# Altium schematic symbol library 原理图库.SchLib: 64 symbols
Pins are listed as number, name and electrical type; pins without a type are passive.

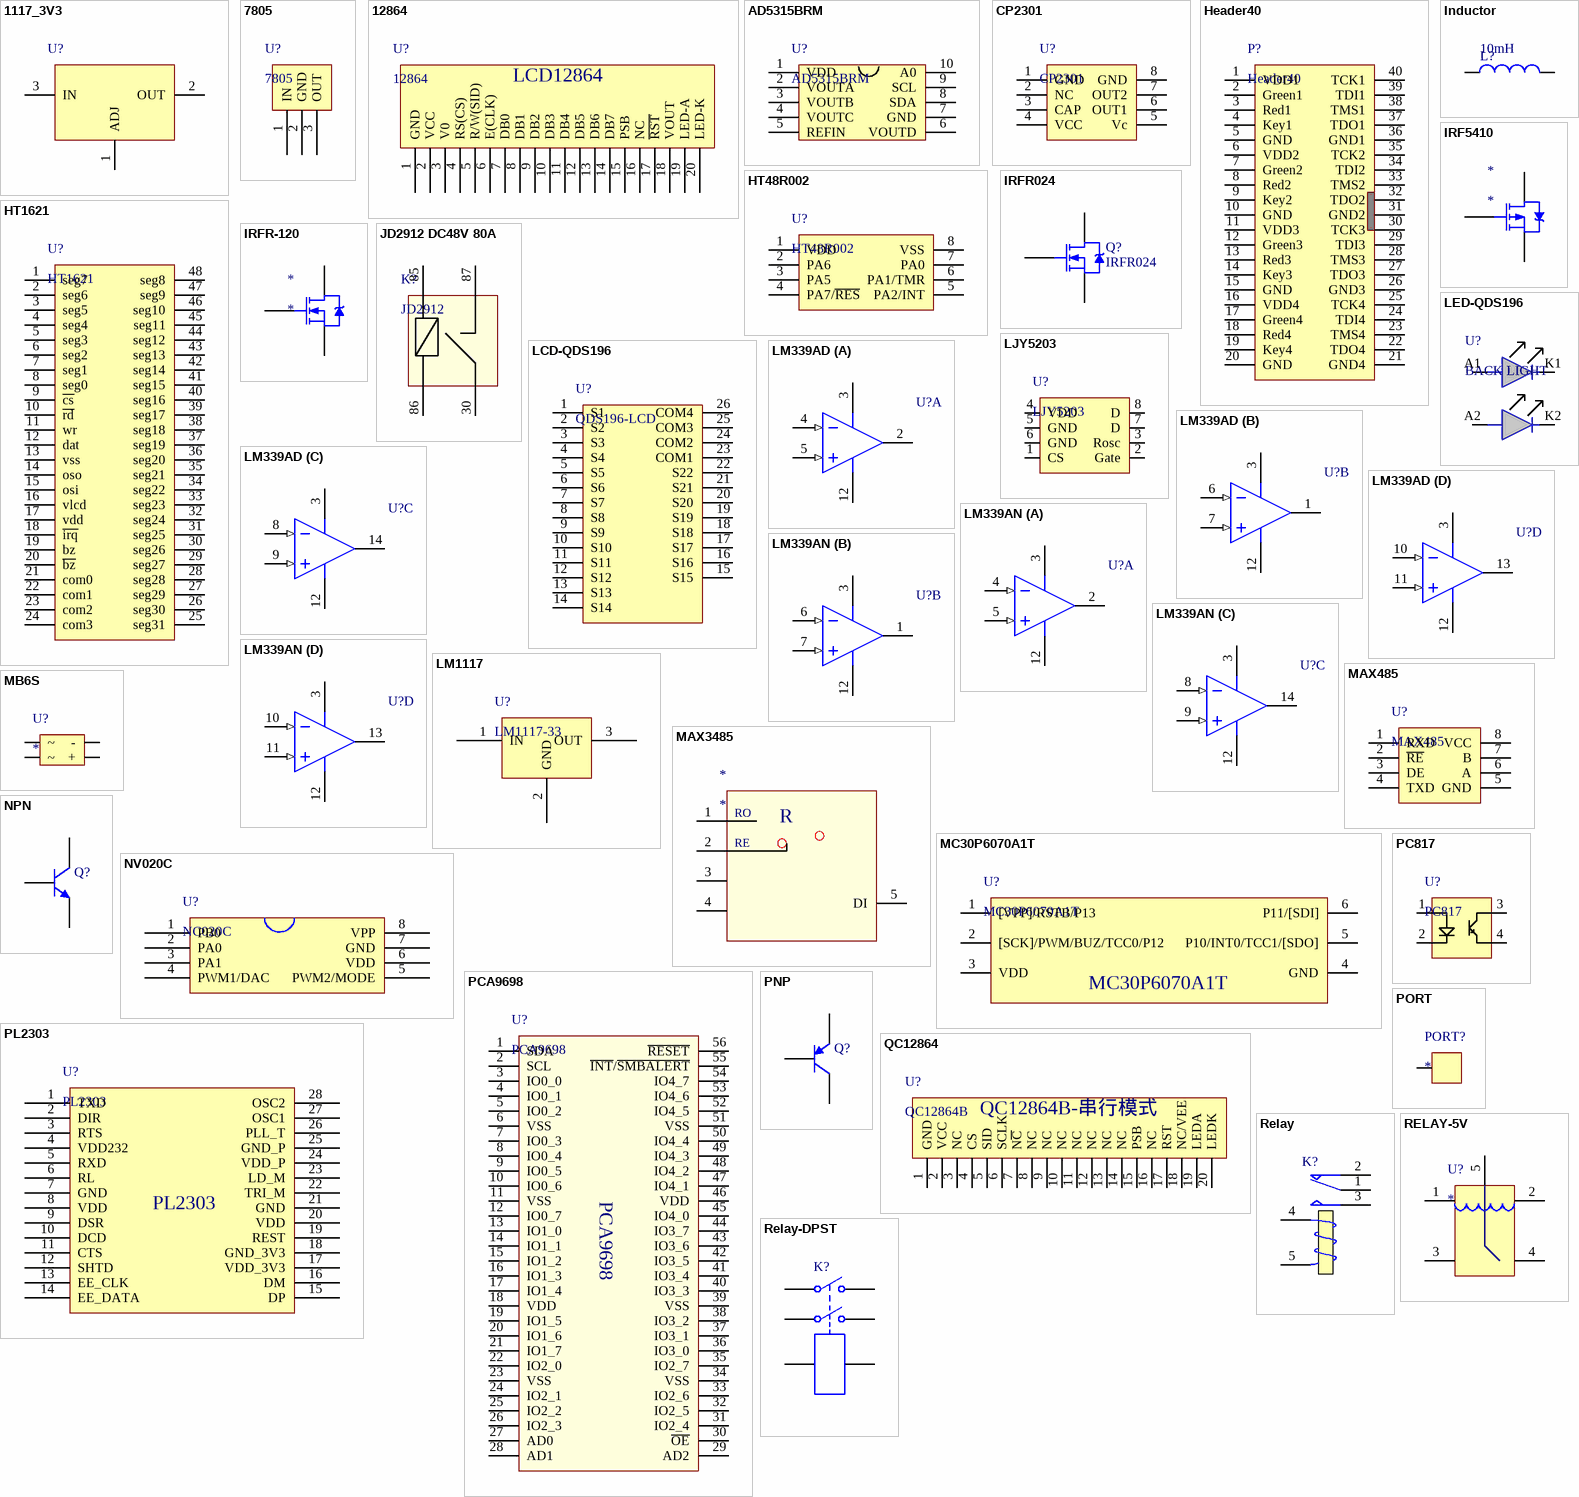
[diagram p0: symbols 1117_3V3 to Relay-DPST]

## 1117_3V3
designator U?  (value not drawn)
3.3V   LDO芯片
footprint SOT-223-jt (1117-3V3芯片的封装)
pins: 1 ADJ, 2 OUT, 3 IN

## 7805
designator U?
5V稳压LDO
pins: 1 IN, 2 GND, 3 OUT

## 12864
designator U?
12864   点阵显示屏
pins: 1 GND, 2 VCC, 3 V0, 4 RS(CS), 5 R/W(SID), 6 E(CLK), 7 DB0, 8 DB1, 9 DB2, 10 DB3, 11 DB4, 12 DB5, 13 DB6, 14 DB7, 15 PSB, 16 NC, 17 ~{RST}, 18 VOUT, 19 LED-A, 20 LED-K
text: LCD12864

## AD5315BRM
designator U?
footprint MSOP10
pins: 1 VDD, 2 VOUTA, 3 VOUTB, 4 VOUTC, 5 REFIN, 6 VOUTD, 7 GND, 8 SDA, 9 SCL, 10 A0

## CP2301
designator U?
pins: 1 GND, 2 NC, 3 CAP, 4 VCC, 5 Vc, 6 OUT1, 7 OUT2, 8 GND

## Header40
designator P?
pins: 1 VDD1, 2 Green1, 3 Red1, 4 Key1, 5 GND, 6 VDD2, 7 Green2, 8 Red2, 9 Key2, 10 GND, 11 VDD3, 12 Green3, 13 Red3, 14 Key3, 15 GND, 16 VDD4, 17 Green4, 18 Red4, 19 Key4, 20 GND, 21 GND4, 22 TDO4, 23 TMS4, 24 TDI4, 25 TCK4, 26 GND3, 27 TDO3, 28 TMS3, 29 TDI3, 30 TCK3, 31 GND2, 32 TDO2, 33 TMS2, 34 TDI2, 35 TCK2, 36 GND1, 37 TDO1, 38 TMS1, 39 TDI1, 40 TCK1

## HT48R002
designator U?
pins: 1 VDD, 2 PA6, 3 PA5, 4 PA7/~{RES}, 5 PA2/INT, 6 PA1/TMR, 7 PA0, 8 VSS

## HT1621
designator U?
pins: 1 seg7, 2 seg6, 3 seg5, 4 seg4, 5 seg3, 6 seg2, 7 seg1, 8 seg0, 9 ~{cs}, 10 ~{rd}, 11 wr, 12 dat, 13 vss, 14 oso, 15 osi, 16 vlcd, 17 vdd, 18 ~{irq}, 19 bz, 20 ~{bz}, 21 com0, 22 com1, 23 com2, 24 com3, 25 seg31, 26 seg30, 27 seg29, 28 seg28, 29 seg27, 30 seg26, 31 seg25, 32 seg24, 33 seg23, 34 seg22, 35 seg21, 36 seg20, 37 seg19, 38 seg18, 39 seg17, 40 seg16, 41 seg15, 42 seg14, 43 seg13, 44 seg12, 45 seg11, 46 seg10, 47 seg9, 48 seg8

## Inductor
designator L?  value 10mH
Inductor; Code_IEC: 1005; Published: 8-Jun-2000; LatestRevisionDate: 29-May-2009; LatestRevisionNote: IPC-7351 Footprint Added.; PackageReference: 0402-A; Publisher: Altium Limited; PackageDescription: Chip Inductor; Code_JEITA: 0402
footprint 0402-A (Chip Inductor, Body 1.0x0.5mm, IPC High Density)
footprint INDC1608L (Chip Inductor, Body 1.6x0.8mm, IPC High Density)
footprint 2029 (Chip Inductor, Body 2.0x1.2mm, IPC High Density)
footprint 0603 (Chip Inductor, Body 0.6x0.3mm, IPC High Density)
footprint INDC3216 (Chip Inductor, Body 3.2x1.6mm, IPC High Density)
footprint INDC4532 (Chip Inductor, Body 4.5x3.2mm, IPC High Density)
simulation model INDUCTOR (Inductor)
signal-integrity model Inductor
pins: 1, 2

## IRF5410
designator *
footprint TO252-AA (IRF5410功率MOS管贴片封装-官方)
pins: 1 G, 3 S, 4 D

## IRFR024
designator Q?
HEXFET N-Channel Power MOSFET; Note: Pin 2 is trimmed and is electrically connected to Drain.; Published: 8-Jun-2000; LatestRevisionDate: 17-Jul-2002; LatestRevisionNote: Re-released for DXP Platform.; DatasheetVersion: PD-9.702A; PackageVersion: Feb-2003; PackageReference: TO-252AA; Publisher: Altium Limited; PackageDescription: D-PAK/TO-252-AA; 3 Leads (1 Cropped); Body 10.4 (inc. leads) x 6.7 mm (LxW max); Code_JEDEC: TO-252-AA; ComponentLink1Description: Manufacturer Link; ComponentLink1URL: http://www.irf.com/; ComponentLink2Description: Datasheet; ComponentLink2URL: http://www.irf.com/product-info/datasheets/data/irfr024.pdf
footprint TO252-AA (IRF5410功率MOS管贴片封装-官方)
simulation model IRFR024 (SUBCKT)
pins: 1 G, 3 S, 4 D

## IRFR-120
designator *
footprint TO252-AA (IRF5410功率MOS管贴片封装-官方)
pins: 1 G, 3 S, 4 D

## JD2912 DC48V 80A
designator K?, comment JD2912
pins: 30 GND, 85 GND, 86 GND, 87 GND

## LCD-QDS196
designator U?, comment QDS196-LCD
pins: 1 S1, 2 S2, 3 S3, 4 S4, 5 S5, 6 S6, 7 S7, 8 S8, 9 S9, 10 S10, 11 S11, 12 S12, 13 S13, 14 S14, 15 S15, 16 S16, 17 S17, 18 S18, 19 S19, 20 S20, 21 S21, 22 S22, 23 COM1, 24 COM2, 25 COM3, 26 COM4

## LED-QDS196
designator U?, comment BACK LIGHT
footprint QDS196-LED
pins: A1 CAP, A2 CAP, K1 CAP, K2 CAP

## LJY5203
designator U?
DC-DC   LED恒流驱动芯片
pins: 1 CS, 2 Gate, 3 Rosc, 4 VDD, 5 GND, 6 GND, 7 D, 8 D

## LM339AD
designator U?
Low-Power Quad Voltage Comparator; Published: 24-Aug-2001; LatestRevisionDate: 13-Apr-2006; LatestRevisionNote: IPC-7351 Footprint Added.; DatasheetVersion: Jun-1998; PackageVersion: Sep-1998; PackageReference: SO14; Publisher: Altium Limited; PackageDescription: 14-Pin Small Outline Integrated Circuit 1.27 mm Pitch; Code_IPC: SOIC127P600-14; ComponentLink1Description: Manufacturer Link; ComponentLink1URL: http://www.st.com/; ComponentLink2Description: Datasheet; ComponentLink2URL: http://www.st.com/stonline/products/literature/ds/2159/lm239.pdf
footprint SO14_N (SOIC, 14-Leads, Body 8.7x3.9mm, Pitch 1.27mm, IPC Medium Density)
footprint SO14_L (SOIC, 14-Leads, Body 8.7x3.9mm, Pitch 1.27mm, IPC High Density)
footprint SO14_M (SOIC, 14-Leads, Body 8.7x3.9mm, Pitch 1.27mm, IPC Low Density)
3D model SO14 (14-Pin Small Outline Integrated Circuit 1.27 mm Pitch)
pins on every part: 3 V+ (power), 12 V- (power)
part A pins: 2 OUT (oc), 4 IN- (in), 5 IN+ (in)
part B pins: 1 OUT (oc), 6 IN- (in), 7 IN+ (in)
part C pins: 8 IN- (in), 9 IN+ (in), 14 OUT (oc)
part D pins: 10 IN- (in), 11 IN+ (in), 13 OUT (oc)

## LM339AN
designator U?
Low-Power Quad Voltage Comparator; Published: 24-Aug-2001; LatestRevisionDate: 06-Jun-2005; LatestRevisionNote: Stylized 3D Model Added.; DatasheetVersion: Jun-1998; PackageVersion: Jan-1997; PackageReference: DIP14; Publisher: Altium Limited; PackageDescription: DIP; 14 Leads; Row Spacing 7.62 mm; Pitch 2.54 mm; ComponentLink1Description: Manufacturer Link; ComponentLink1URL: http://www.st.com/; ComponentLink2Description: Datasheet; ComponentLink2URL: http://www.st.com/stonline/products/literature/ds/2159/lm239.pdf
footprint DIP14 (DIP; 14 Leads; Row Spacing 7.62 mm; Pitch 2.54 mm)
3D model DIP14 (DIP; 14 Leads; Row Spacing 7.62 mm; Pitch 2.54 mm)
pins on every part: 3 V+ (power), 12 V- (power)
part A pins: 2 OUT (oc), 4 IN- (in), 5 IN+ (in)
part B pins: 1 OUT (oc), 6 IN- (in), 7 IN+ (in)
part C pins: 8 IN- (in), 9 IN+ (in), 14 OUT (oc)
part D pins: 10 IN- (in), 11 IN+ (in), 13 OUT (oc)

## LM1117
designator U?, comment LM1117-33
3.3V稳压LDO
pins: 1 IN, 2 GND, 3 OUT

## MAX485
designator U?
MAX485芯片
pins: 1 RXD, 2 ~{RE}, 3 DE, 4 TXD, 5 GND, 6 A, 7 B, 8 VCC

## MAX3485
designator *
pins: 1 RO, 2 RE, 3 DE, 4 DI, 5 DI
text: R

## MB6S
designator U?
pins: 1 ~, 2 ~, 3 +, 4 -

## MC30P6070A1T
designator U?
pins: 1 [VPP]/RSTB/P13, 2 [SCK]/PWM/BUZ/TCC0/P12, 3 VDD, 4 GND, 5 P10/INT0/TCC1/[SDO], 6 P11/[SDI]

## NPN
designator Q?
NPN Bipolar Transistor; Published: 8-Jun-2000; LatestRevisionDate: 17-Jul-2002; LatestRevisionNote: Re-released for DXP Platform.; PackageReference: TO-226-AA; Publisher: Altium Limited; PackageDescription: TO, Flat Index; 3 In-Line, Axial Leads; Body Dia. 4.8mm; Leads 0.55 x 0.51 mm (max); Code_JEDEC: TO-226-AA
footprint SOT23-JT; pin to pad 1>C 2>B 3>E
pins: 1 C, 2 B, 3 E

## NV020C
designator U?, comment NC020C
pins: 1 PB0, 2 PA0, 3 PA1, 4 PWM1/DAC, 5 PWM2/MODE, 6 VDD, 7 GND, 8 VPP

## PC817
designator U?
常用光耦元件
pins: 1, 2, 3, 4

## PCA9698
designator U?
pins: 1 SDA, 2 SCL, 3 IO0_0, 4 IO0_1, 5 IO0_2, 6 VSS, 7 IO0_3, 8 IO0_4, 9 IO0_5, 10 IO0_6, 11 VSS, 12 IO0_7, 13 IO1_0, 14 IO1_1, 15 IO1_2, 16 IO1_3, 17 IO1_4, 18 VDD, 19 IO1_5, 20 IO1_6, 21 IO1_7, 22 IO2_0, 23 VSS, 24 IO2_1, 25 IO2_2, 26 IO2_3, 27 AD0, 28 AD1, 29 AD2, 30 ~{OE}, 31 IO2_4, 32 IO2_5, 33 IO2_6, 34 VSS, 35 IO2_7, 36 IO3_0, 37 IO3_1, 38 IO3_2, 39 VSS, 40 IO3_3, 41 IO3_4, 42 IO3_5, 43 IO3_6, 44 IO3_7, 45 IO4_0, 46 VDD, 47 IO4_1, 48 IO4_2, 49 IO4_3, 50 IO4_4, 51 VSS, 52 IO4_5, 53 IO4_6, 54 IO4_7, 55 ~{INT}/~{SMBALERT}, 56 ~{RESET}

## PL2303
designator U?
pins: 1 TXD, 2 DIR, 3 RTS, 4 VDD232, 5 RXD, 6 RL, 7 GND, 8 VDD, 9 DSR, 10 DCD, 11 CTS, 12 SHTD, 13 EE_CLK, 14 EE_DATA, 15 DP, 16 DM, 17 VDD_3V3, 18 GND_3V3, 19 REST, 20 VDD, 21 GND, 22 TRI_M, 23 LD_M, 24 VDD_P, 25 GND_P, 26 PLL_T, 27 OSC1, 28 OSC2

## PNP
designator Q?
PNP Bipolar Transistor; Published: 8-Jun-2000; LatestRevisionDate: 29-May-2009; LatestRevisionNote: IPC-7351 Footprint Added.; PackageVersion: Aug-1999; PackageReference: SOT-23B; Publisher: Altium Limited; PackageDescription: 3-Pin SOT-23 Package 0.95 mm Pitch, 2.4 mm Lead Span
footprint SOT23-JT; pin to pad 1>E 2>B 3>C
pins: 1 E, 2 B, 3 C

## PORT
designator PORT?
pins: 1

## QC12864
designator U?, comment QC12864B
育松电子QC12864B
pins: 1 GND, 2 VCC, 3 NC, 4 CS, 5 SID, 6 SCLK, 7 N~{C}, 8 NC, 9 NC, 10 NC, 11 NC, 12 NC, 13 NC, 14 NC, 15 PSB, 16 NC, 17 RST, 18 NC/VEE, 19 LEDA, 20 LEDK
text: QC12864B-串行模式

## Relay
designator K?
SPDT Relay; Published: 8-Jun-2000; LatestRevisionDate: 17-Jul-2002; LatestRevisionNote: Re-released for DXP Platform.; PackageReference: MODULE5B; Publisher: Altium Limited
footprint MODULE5B (DIP; 5 Round Pins; Row Space 15.24 mm; Pitch 2.54 mm)
simulation model SPDTRELAY (Spice Subcircuit)
pins: 1 COM, 2 NC, 3 NO, 4 T1, 5 T2

## RELAY-5V
designator U?
松乐5V 继电器SRD-05VDC-SL-C
pins: 1 D8, 2 D9, 3 D8, 4 D8, 5 D8

## Relay-DPST
designator K?
Dual-Pole Single-Throw Relay; Published: 24-Mar-1999; LatestRevisionDate: 17-Jul-2002; LatestRevisionNote: Re-released for DXP Platform.; PackageReference: MODULE6; Publisher: Altium Limited
footprint MODULE6 (DIP; 6 Round Pins; Row Space 20.32 mm; Pitch 2.54 mm)
simulation model DPSTRELAY (Spice Subcircuit)
pins: 1, 2, 3, 4, 5, 6

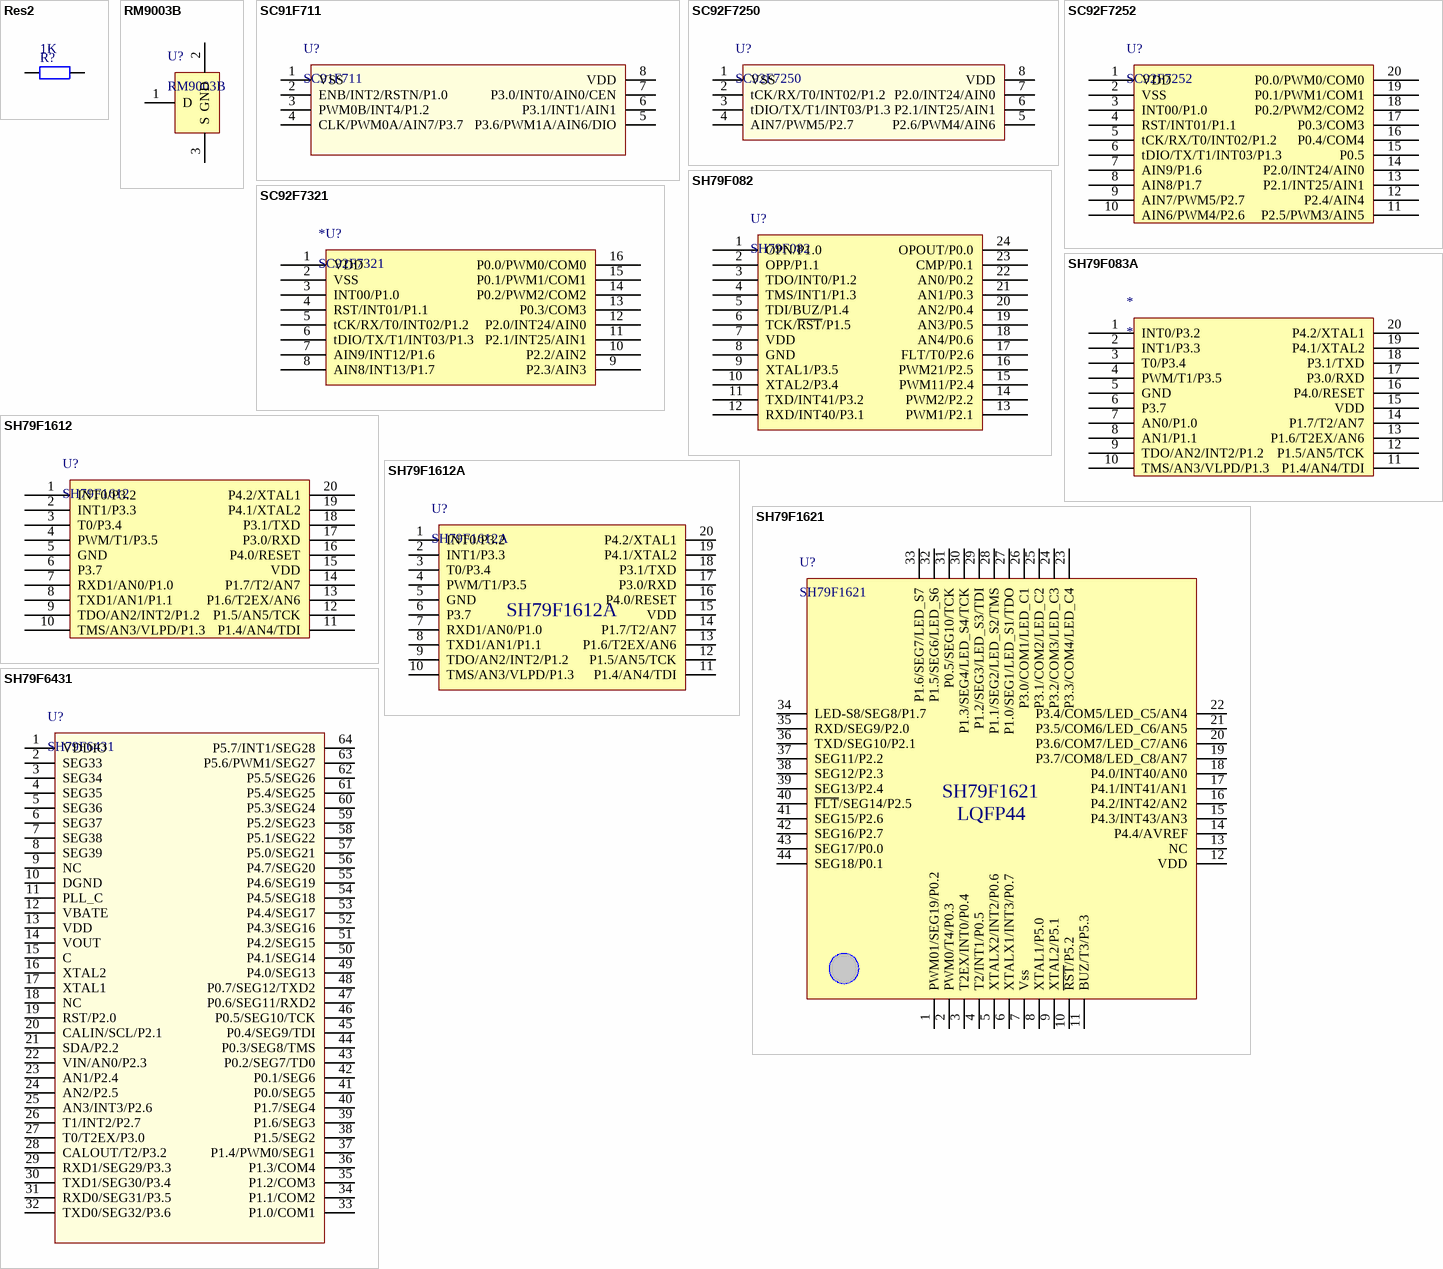
[diagram p1: symbols Res2 to SH79F6431]

## Res2
designator R?  value 1K
Resistor; Published: 8-Jun-2000; LatestRevisionDate: 17-Jul-2002; LatestRevisionNote: Re-released for DXP Platform.; PackageReference: AXIAL-0.4; Publisher: Altium Limited; PackageDescription: Axial Device, Thru-Hole; 2 Leads; 0.4 in Pin Spacing
footprint AXIAL-0.4 (Axial Device, Thru-Hole; 2 Leads; 0.4 in Pin Spacing)
simulation model RESISTOR (Resistor)
signal-integrity model Res
pins: 1, 2

## RM9003B
designator U?
pins: 1 D, 2 GND, 3 S

## SC91F711
designator U?
pins: 1 VSS, 2 ENB/INT2/RSTN/P1.0, 3 PWM0B/INT4/P1.2, 4 CLK/PWM0A/AIN7/P3.7, 5 P3.6/PWM1A/AIN6/DIO, 6 P3.1/INT1/AIN1, 7 P3.0/INT0/AIN0/CEN, 8 VDD

## SC92F7250
designator U?
footprint SOP8 (SOIC, 8-Leads, Body 4.9x3.9mm, Pitch 1.27mm, IPC High Density)
pins: 1 VSS, 2 tCK/RX/T0/INT02/P1.2, 3 tDIO/TX/T1/INT03/P1.3, 4 AIN7/PWM5/P2.7, 5 P2.6/PWM4/AIN6, 6 P2.1/INT25/AIN1, 7 P2.0/INT24/AIN0, 8 VDD

## SC92F7252
designator U?
pins: 1 VDD, 2 VSS, 3 INT00/P1.0, 4 RST/INT01/P1.1, 5 tCK/RX/T0/INT02/P1.2, 6 tDIO/TX/T1/INT03/P1.3, 7 AIN9/P1.6, 8 AIN8/P1.7, 9 AIN7/PWM5/P2.7, 10 AIN6/PWM4/P2.6, 11 P2.5/PWM3/AIN5, 12 P2.4/AIN4, 13 P2.1/INT25/AIN1, 14 P2.0/INT24/AIN0, 15 P0.5, 16 P0.4/COM4, 17 P0.3/COM3, 18 P0.2/PWM2/COM2, 19 P0.1/PWM1/COM1, 20 P0.0/PWM0/COM0

## SC92F7321
designator *U?
赛元微单片机芯片SC92F7321
pins: 1 VDD, 2 VSS, 3 INT00/P1.0, 4 RST/INT01/P1.1, 5 tCK/RX/T0/INT02/P1.2, 6 tDIO/TX/T1/INT03/P1.3, 7 AIN9/INT12/P1.6, 8 AIN8/INT13/P1.7, 9 P2.3/AIN3, 10 P2.2/AIN2, 11 P2.1/INT25/AIN1, 12 P2.0/INT24/AIN0, 13 P0.3/COM3, 14 P0.2/PWM2/COM2, 15 P0.1/PWM1/COM1, 16 P0.0/PWM0/COM0

## SH79F082
designator U?
中颖082芯片
pins: 1 OPN/P1.0, 2 OPP/P1.1, 3 TDO/INT0/P1.2, 4 TMS/INT1/P1.3, 5 TDI/BUZ/P1.4, 6 TCK/~{RST}/P1.5, 7 VDD, 8 GND, 9 XTAL1/P3.5, 10 XTAL2/P3.4, 11 TXD/INT41/P3.2, 12 RXD/INT40/P3.1, 13 PWM1/P2.1, 14 PWM2/P2.2, 15 PWM11/P2.4, 16 PWM21/P2.5, 17 FLT/T0/P2.6, 18 AN4/P0.6, 19 AN3/P0.5, 20 AN2/P0.4, 21 AN1/P0.3, 22 AN0/P0.2, 23 CMP/P0.1, 24 OPOUT/P0.0

## SH79F083A
designator *
pins: 1 INT0/P3.2, 2 INT1/P3.3, 3 T0/P3.4, 4 PWM/T1/P3.5, 5 GND, 6 P3.7, 7 AN0/P1.0, 8 AN1/P1.1, 9 TDO/AN2/INT2/P1.2, 10 TMS/AN3/VLPD/P1.3, 11 P1.4/AN4/TDI, 12 P1.5/AN5/TCK, 13 P1.6/T2EX/AN6, 14 P1.7/T2/AN7, 15 VDD, 16 P4.0/RESET, 17 P3.0/RXD, 18 P3.1/TXD, 19 P4.1/XTAL2, 20 P4.2/XTAL1

## SH79F1612
designator U?
pins: 1 INT0/P3.2, 2 INT1/P3.3, 3 T0/P3.4, 4 PWM/T1/P3.5, 5 GND, 6 P3.7, 7 RXD1/AN0/P1.0, 8 TXD1/AN1/P1.1, 9 TDO/AN2/INT2/P1.2, 10 TMS/AN3/VLPD/P1.3, 11 P1.4/AN4/TDI, 12 P1.5/AN5/TCK, 13 P1.6/T2EX/AN6, 14 P1.7/T2/AN7, 15 VDD, 16 P4.0/RESET, 17 P3.0/RXD, 18 P3.1/TXD, 19 P4.1/XTAL2, 20 P4.2/XTAL1

## SH79F1612A
designator U?
中颖TSSOP20封装双串口芯片
pins: 1 INT0/P3.2, 2 INT1/P3.3, 3 T0/P3.4, 4 PWM/T1/P3.5, 5 GND, 6 P3.7, 7 RXD1/AN0/P1.0, 8 TXD1/AN1/P1.1, 9 TDO/AN2/INT2/P1.2, 10 TMS/AN3/VLPD/P1.3, 11 P1.4/AN4/TDI, 12 P1.5/AN5/TCK, 13 P1.6/T2EX/AN6, 14 P1.7/T2/AN7, 15 VDD, 16 P4.0/RESET, 17 P3.0/RXD, 18 P3.1/TXD, 19 P4.1/XTAL2, 20 P4.2/XTAL1

## SH79F1621
designator U?
中颖带LCD、LED驱动的芯片
pins: 1 PWM01/SEG19/P0.2, 2 PWM0/T4/P0.3, 3 T2EX/INT0/P0.4, 4 T2/INT1/P0.5, 5 XTALX2/INT2/P0.6, 6 XTALX1/INT3/P0.7, 7 Vss, 8 XTAL1/P5.0, 9 XTAL2/P5.1, 10 ~{RST}/P5.2, 11 BUZ/T3/P5.3, 12 VDD, 13 NC, 14 P4.4/AVREF, 15 P4.3/INT43/AN3, 16 P4.2/INT42/AN2, 17 P4.1/INT41/AN1, 18 P4.0/INT40/AN0, 19 P3.7/COM8/LED_C8/AN7, 20 P3.6/COM7/LED_C7/AN6, 21 P3.5/COM6/LED_C6/AN5, 22 P3.4/COM5/LED_C5/AN4, 23 P3.3/COM4/LED_C4, 24 P3.2/COM3/LED_C3, 25 P3.1/COM2/LED_C2, 26 P3.0/COM1/LED_C1, 27 P1.0/SEG1/LED_S1/TDO, 28 P1.1/SEG2/LED_S2/TMS, 29 P1.2/SEG3/LED_S3/TDI, 30 P1.3/SEG4/LED_S4/TCK, 31 P0.5/SEG10/TCK, 32 P1.5/SEG6/LED_S6, 33 P1.6/SEG7/LED_S7, 34 LED-S8/SEG8/P1.7, 35 RXD/SEG9/P2.0, 36 TXD/SEG10/P2.1, 37 SEG11/P2.2, 38 SEG12/P2.3, 39 SEG13/P2.4, 40 ~{FLT}/SEG14/P2.5, 41 SEG15/P2.6, 42 SEG16/P2.7, 43 SEG17/P0.0, 44 SEG18/P0.1
text: LQFP44

## SH79F6431
designator U?
中颖单片机
pins: 1 VDDIO, 2 SEG33, 3 SEG34, 4 SEG35, 5 SEG36, 6 SEG37, 7 SEG38, 8 SEG39, 9 NC, 10 DGND, 11 PLL_C, 12 VBATE, 13 VDD, 14 VOUT, 15 C, 16 XTAL2, 17 XTAL1, 18 NC, 19 RST/P2.0, 20 CALIN/SCL/P2.1, 21 SDA/P2.2, 22 VIN/AN0/P2.3, 23 AN1/P2.4, 24 AN2/P2.5, 25 AN3/INT3/P2.6, 26 T1/INT2/P2.7, 27 T0/T2EX/P3.0, 28 CALOUT/T2/P3.2, 29 RXD1/SEG29/P3.3, 30 TXD1/SEG30/P3.4, 31 RXD0/SEG31/P3.5, 32 TXD0/SEG32/P3.6, 33 P1.0/COM1, 34 P1.1/COM2, 35 P1.2/COM3, 36 P1.3/COM4, 37 P1.4/PWM0/SEG1, 38 P1.5/SEG2, 39 P1.6/SEG3, 40 P1.7/SEG4, 41 P0.0/SEG5, 42 P0.1/SEG6, 43 P0.2/SEG7/TD0, 44 P0.3/SEG8/TMS, 45 P0.4/SEG9/TDI, 46 P0.5/SEG10/TCK, 47 P0.6/SEG11/RXD2, 48 P0.7/SEG12/TXD2, 49 P4.0/SEG13, 50 P4.1/SEG14, 51 P4.2/SEG15, 52 P4.3/SEG16, 53 P4.4/SEG17, 54 P4.5/SEG18, 55 P4.6/SEG19, 56 P4.7/SEG20, 57 P5.0/SEG21, 58 P5.1/SEG22, 59 P5.2/SEG23, 60 P5.3/SEG24, 61 P5.4/SEG25, 62 P5.5/SEG26, 63 P5.6/PWM1/SEG27, 64 P5.7/INT1/SEG28

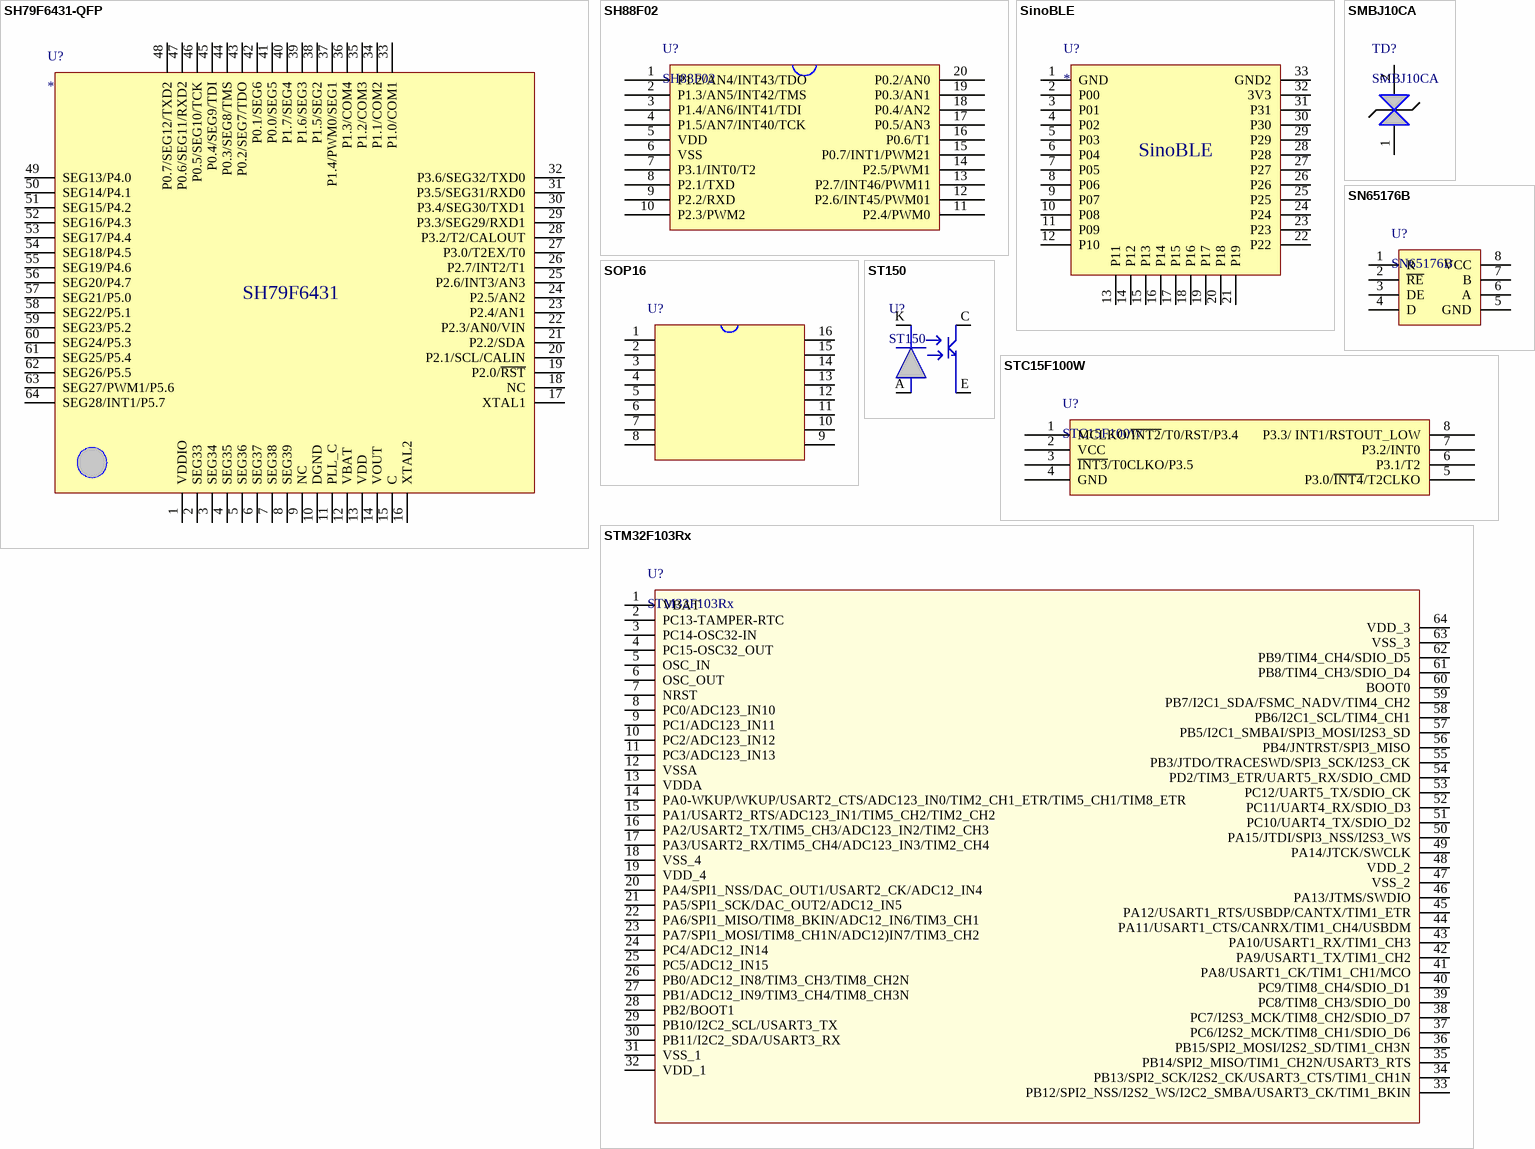
[diagram p2: symbols SH79F6431-QFP to STM32F103Rx]

## SH79F6431-QFP
designator U?
pins: 1 VDDIO, 2 SEG33, 3 SEG34, 4 SEG35, 5 SEG36, 6 SEG37, 7 SEG38, 8 SEG39, 9 NC, 10 DGND, 11 PLL_C, 12 VBAT, 13 VDD, 14 VOUT, 15 C, 16 XTAL2, 17 XTAL1, 18 NC, 19 P2.0/~{RST}, 20 P2.1/SCL/CALIN, 21 P2.2/SDA, 22 P2.3/AN0/VIN, 23 P2.4/AN1, 24 P2.5/AN2, 25 P2.6/INT3/AN3, 26 P2.7/INT2/T1, 27 P3.0/T2EX/T0, 28 P3.2/T2/CALOUT, 29 P3.3/SEG29/RXD1, 30 P3.4/SEG30/TXD1, 31 P3.5/SEG31/RXD0, 32 P3.6/SEG32/TXD0, 33 P1.0/COM1, 34 P1.1/COM2, 35 P1.2/COM3, 36 P1.3/COM4, 37 P1.4/PWM0/SEG1, 38 P1.5/SEG2, 39 P1.6/SEG3, 40 P1.7/SEG4, 41 P0.0/SEG5, 42 P0.1/SEG6, 43 P0.2/SEG7/TDO, 44 P0.3/SEG8/TMS, 45 P0.4/SEG9/TDI, 46 P0.5/SEG10/TCK, 47 P0.6/SEG11/RXD2, 48 P0.7/SEG12/TXD2, 49 SEG13/P4.0, 50 SEG14/P4.1, 51 SEG15/P4.2, 52 SEG16/P4.3, 53 SEG17/P4.4, 54 SEG18/P4.5, 55 SEG19/P4.6, 56 SEG20/P4.7, 57 SEG21/P5.0, 58 SEG22/P5.1, 59 SEG23/P5.2, 60 SEG24/P5.3, 61 SEG25/P5.4, 62 SEG26/P5.5, 63 SEG27/PWM1/P5.6, 64 SEG28/INT1/P5.7
text: SH79F6431

## SH88F02
designator U?
中颖20管脚8位单片机
pins: 1 P1.2/AN4/INT43/TDO, 2 P1.3/AN5/INT42/TMS, 3 P1.4/AN6/INT41/TDI, 4 P1.5/AN7/INT40/TCK, 5 VDD, 6 VSS, 7 P3.1/INT0/T2, 8 P2.1/TXD, 9 P2.2/RXD, 10 P2.3/PWM2, 11 P2.4/PWM0, 12 P2.6/INT45/PWM01, 13 P2.7/INT46/PWM11, 14 P2.5/PWM1, 15 P0.7/INT1/PWM21, 16 P0.6/T1, 17 P0.5/AN3, 18 P0.4/AN2, 19 P0.3/AN1, 20 P0.2/AN0

## SinoBLE
designator U?
中颖电子蓝牙模块
footprint SINO-BLE (中颖的32位核心BLE模块)
pins: 1 GND, 2 P00, 3 P01, 4 P02, 5 P03, 6 P04, 7 P05, 8 P06, 9 P07, 10 P08, 11 P09, 12 P10, 13 P11, 14 P12, 15 P13, 16 P14, 17 P15, 18 P16, 19 P17, 20 P18, 21 P19, 22 P22, 23 P23, 24 P24, 25 P25, 26 P26, 27 P27, 28 P28, 29 P29, 30 P30, 31 P31, 32 3V3, 33 GND2

## SMBJ10CA
designator TD?
pins: 1 CAP, 2 CAP

## SN65176B
designator U?
pins: 1 R, 2 ~{RE}, 3 DE, 4 D, 5 GND, 6 A, 7 B, 8 VCC

## SOP16
designator U?  (value not drawn)
pins: 1, 2, 3, 4, 5, 6, 7, 8, 9, 10, 11, 12, 13, 14, 15, 16

## ST150
designator U?
pins: A CAP, C CAP, E CAP, K CAP

## STC15F100W
designator U?
pins: 1 MCLKO/~{INT2}/T0/RST/P3.4, 2 VCC, 3 ~{INT3}/T0CLKO/P3.5, 4 GND, 5 P3.0/~{INT4}/T2CLKO, 6 P3.1/T2, 7 P3.2/INT0, 8 P3.3/ INT1/RSTOUT_LOW

## STM32F103Rx
designator U?
STM32  MCU芯片
pins: 1 VBAT, 2 PC13-TAMPER-RTC, 3 PC14-OSC32-IN, 4 PC15-OSC32_OUT, 5 OSC_IN, 6 OSC_OUT, 7 NRST, 8 PC0/ADC123_IN10, 9 PC1/ADC123_IN11, 10 PC2/ADC123_IN12, 11 PC3/ADC123_IN13, 12 VSSA, 13 VDDA, 14 PA0-WKUP/WKUP/USART2_CTS/ADC123_IN0/TIM2_CH1_ETR/TIM5_CH1/TIM8_ETR, 15 PA1/USART2_RTS/ADC123_IN1/TIM5_CH2/TIM2_CH2, 16 PA2/USART2_TX/TIM5_CH3/ADC123_IN2/TIM2_CH3, 17 PA3/USART2_RX/TIM5_CH4/ADC123_IN3/TIM2_CH4, 18 VSS_4, 19 VDD_4, 20 PA4/SPI1_NSS/DAC_OUT1/USART2_CK/ADC12_IN4, 21 PA5/SPI1_SCK/DAC_OUT2/ADC12_IN5, 22 PA6/SPI1_MISO/TIM8_BKIN/ADC12_IN6/TIM3_CH1, 23 PA7/SPI1_MOSI/TIM8_CH1N/ADC12)IN7/TIM3_CH2, 24 PC4/ADC12_IN14, 25 PC5/ADC12_IN15, 26 PB0/ADC12_IN8/TIM3_CH3/TIM8_CH2N, 27 PB1/ADC12_IN9/TIM3_CH4/TIM8_CH3N, 28 PB2/BOOT1, 29 PB10/I2C2_SCL/USART3_TX, 30 PB11/I2C2_SDA/USART3_RX, 31 VSS_1, 32 VDD_1, 33 PB12/SPI2_NSS/I2S2_WS/I2C2_SMBA/USART3_CK/TIM1_BKIN, 34 PB13/SPI2_SCK/I2S2_CK/USART3_CTS/TIM1_CH1N, 35 PB14/SPI2_MISO/TIM1_CH2N/USART3_RTS, 36 PB15/SPI2_MOSI/I2S2_SD/TIM1_CH3N, 37 PC6/I2S2_MCK/TIM8_CH1/SDIO_D6, 38 PC7/I2S3_MCK/TIM8_CH2/SDIO_D7, 39 PC8/TIM8_CH3/SDIO_D0, 40 PC9/TIM8_CH4/SDIO_D1, 41 PA8/USART1_CK/TIM1_CH1/MCO, 42 PA9/USART1_TX/TIM1_CH2, 43 PA10/USART1_RX/TIM1_CH3, 44 PA11/USART1_CTS/CANRX/TIM1_CH4/USBDM, 45 PA12/USART1_RTS/USBDP/CANTX/TIM1_ETR, 46 PA13/JTMS/SWDIO, 47 VSS_2, 48 VDD_2, 49 PA14/JTCK/SWCLK, 50 PA15/JTDI/SPI3_NSS/I2S3_WS, 51 PC10/UART4_TX/SDIO_D2, 52 PC11/UART4_RX/SDIO_D3, 53 PC12/UART5_TX/SDIO_CK, 54 PD2/TIM3_ETR/UART5_RX/SDIO_CMD, 55 PB3/JTDO/TRACESWD/SPI3_SCK/I2S3_CK, 56 PB4/JNTRST/SPI3_MISO, 57 PB5/I2C1_SMBAI/SPI3_MOSI/I2S3_SD, 58 PB6/I2C1_SCL/TIM4_CH1, 59 PB7/I2C1_SDA/FSMC_NADV/TIM4_CH2, 60 BOOT0, 61 PB8/TIM4_CH3/SDIO_D4, 62 PB9/TIM4_CH4/SDIO_D5, 63 VSS_3, 64 VDD_3

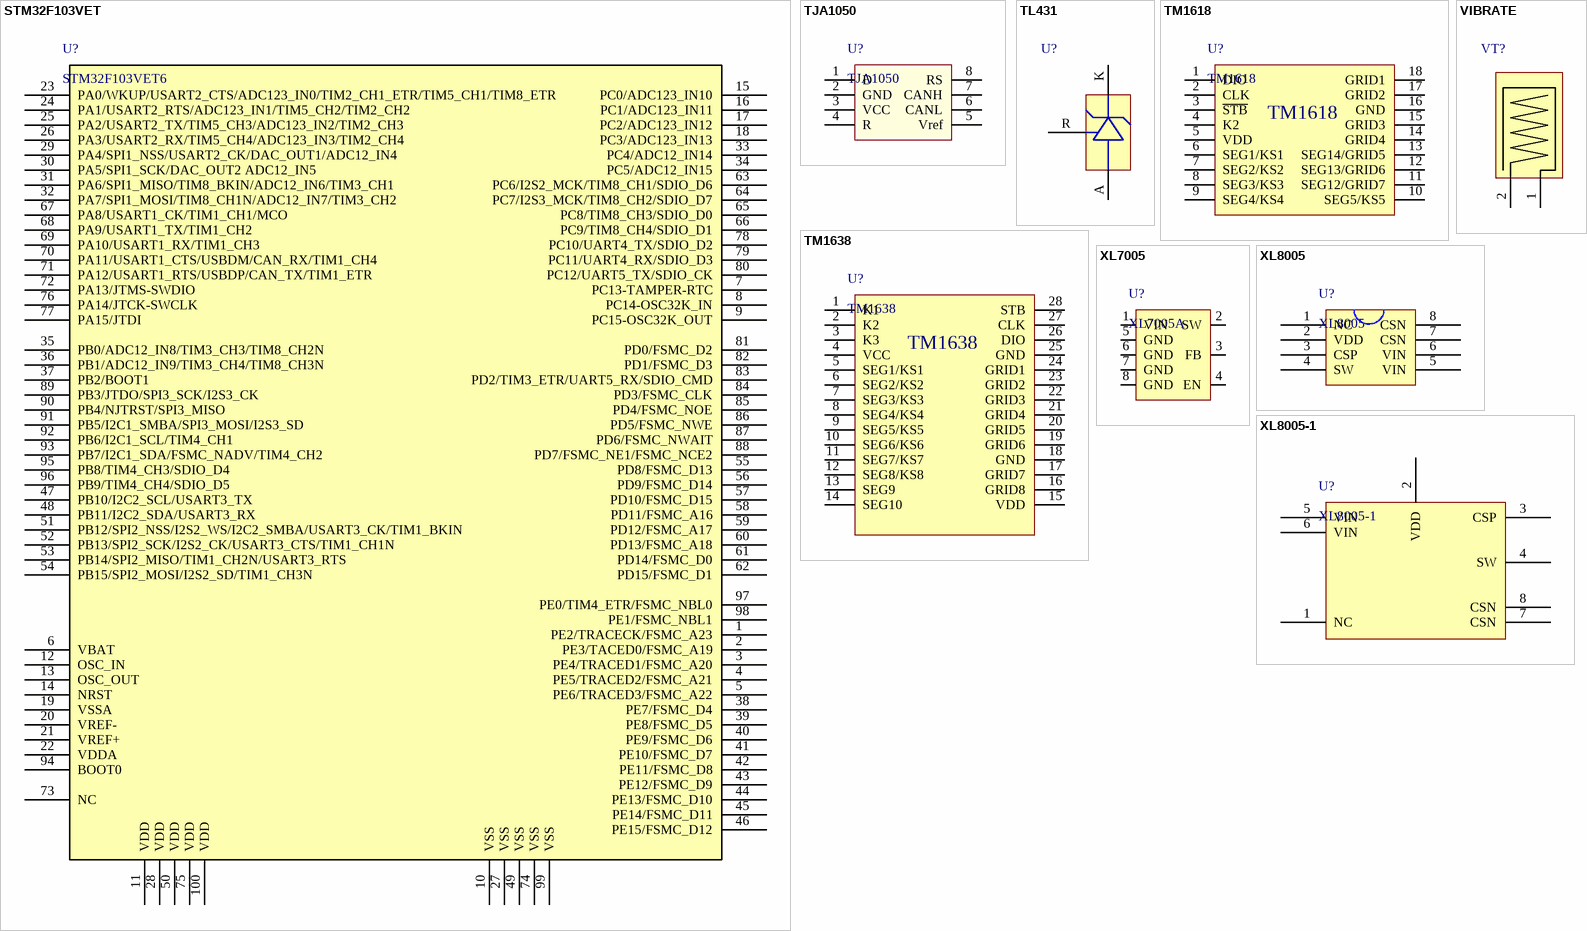
[diagram p3: symbols STM32F103VET to XL8005-1]

## STM32F103VET
designator U?, comment STM32F103VET6
footprint LQFP-100
pins: 1 PE2/TRACECK/FSMC_A23, 2 PE3/TACED0/FSMC_A19, 3 PE4/TRACED1/FSMC_A20, 4 PE5/TRACED2/FSMC_A21, 5 PE6/TRACED3/FSMC_A22, 6 VBAT, 7 PC13-TAMPER-RTC, 8 PC14-OSC32K_IN, 9 PC15-OSC32K_OUT, 10 VSS, 11 VDD, 12 OSC_IN, 13 OSC_OUT, 14 NRST, 15 PC0/ADC123_IN10, 16 PC1/ADC123_IN11, 17 PC2/ADC123_IN12, 18 PC3/ADC123_IN13, 19 VSSA, 20 VREF-, 21 VREF+, 22 VDDA, 23 PA0/WKUP/USART2_CTS/ADC123_IN0/TIM2_CH1_ETR/TIM5_CH1/TIM8_ETR, 24 PA1/USART2_RTS/ADC123_IN1/TIM5_CH2/TIM2_CH2, 25 PA2/USART2_TX/TIM5_CH3/ADC123_IN2/TIM2_CH3, 26 PA3/USART2_RX/TIM5_CH4/ADC123_IN3/TIM2_CH4, 27 VSS, 28 VDD, 29 PA4/SPI1_NSS/USART2_CK/DAC_OUT1/ADC12_IN4, 30 PA5/SPI1_SCK/DAC_OUT2 ADC12_IN5, 31 PA6/SPI1_MISO/TIM8_BKIN/ADC12_IN6/TIM3_CH1, 32 PA7/SPI1_MOSI/TIM8_CH1N/ADC12_IN7/TIM3_CH2, 33 PC4/ADC12_IN14, 34 PC5/ADC12_IN15, 35 PB0/ADC12_IN8/TIM3_CH3/TIM8_CH2N, 36 PB1/ADC12_IN9/TIM3_CH4/TIM8_CH3N, 37 PB2/BOOT1, 38 PE7/FSMC_D4, 39 PE8/FSMC_D5, 40 PE9/FSMC_D6, 41 PE10/FSMC_D7, 42 PE11/FSMC_D8, 43 PE12/FSMC_D9, 44 PE13/FSMC_D10, 45 PE14/FSMC_D11, 46 PE15/FSMC_D12, 47 PB10/I2C2_SCL/USART3_TX, 48 PB11/I2C2_SDA/USART3_RX, 49 VSS, 50 VDD, 51 PB12/SPI2_NSS/I2S2_WS/I2C2_SMBA/USART3_CK/TIM1_BKIN, 52 PB13/SPI2_SCK/I2S2_CK/USART3_CTS/TIM1_CH1N, 53 PB14/SPI2_MISO/TIM1_CH2N/USART3_RTS, 54 PB15/SPI2_MOSI/I2S2_SD/TIM1_CH3N, 55 PD8/FSMC_D13, 56 PD9/FSMC_D14, 57 PD10/FSMC_D15, 58 PD11/FSMC_A16, 59 PD12/FSMC_A17, 60 PD13/FSMC_A18, 61 PD14/FSMC_D0, 62 PD15/FSMC_D1, 63 PC6/I2S2_MCK/TIM8_CH1/SDIO_D6, 64 PC7/I2S3_MCK/TIM8_CH2/SDIO_D7, 65 PC8/TIM8_CH3/SDIO_D0, 66 PC9/TIM8_CH4/SDIO_D1, 67 PA8/USART1_CK/TIM1_CH1/MCO, 68 PA9/USART1_TX/TIM1_CH2, 69 PA10/USART1_RX/TIM1_CH3, 70 PA11/USART1_CTS/USBDM/CAN_RX/TIM1_CH4, 71 PA12/USART1_RTS/USBDP/CAN_TX/TIM1_ETR, 72 PA13/JTMS-SWDIO, 73 NC, 74 VSS, 75 VDD, 76 PA14/JTCK-SWCLK, 77 PA15/JTDI, 78 PC10/UART4_TX/SDIO_D2, 79 PC11/UART4_RX/SDIO_D3, 80 PC12/UART5_TX/SDIO_CK, 81 PD0/FSMC_D2, 82 PD1/FSMC_D3, 83 PD2/TIM3_ETR/UART5_RX/SDIO_CMD, 84 PD3/FSMC_CLK, 85 PD4/FSMC_NOE, 86 PD5/FSMC_NWE, 87 PD6/FSMC_NWAIT, 88 PD7/FSMC_NE1/FSMC_NCE2, 89 PB3/JTDO/SPI3_SCK/I2S3_CK, 90 PB4/NJTRST/SPI3_MISO, 91 PB5/I2C1_SMBA/SPI3_MOSI/I2S3_SD, 92 PB6/I2C1_SCL/TIM4_CH1, 93 PB7/I2C1_SDA/FSMC_NADV/TIM4_CH2, 94 BOOT0, 95 PB8/TIM4_CH3/SDIO_D4, 96 PB9/TIM4_CH4/SDIO_D5, 97 PE0/TIM4_ETR/FSMC_NBL0, 98 PE1/FSMC_NBL1, 99 VSS, 100 VDD

## TJA1050
designator U?
pins: 1 D, 2 GND, 3 VCC, 4 R, 5 Vref, 6 CANL, 7 CANH, 8 RS

## TL431
designator U?  (value not drawn)
pins: A, K, R

## TM1618
designator U?
天微LED面板驱动芯片  5位X7段    4位X8段
pins: 1 DIO, 2 CLK, 3 ~{STB}, 4 K2, 5 VDD, 6 SEG1/KS1, 7 SEG2/KS2, 8 SEG3/KS3, 9 SEG4/KS4, 10 SEG5/KS5, 11 SEG12/GRID7, 12 SEG13/GRID6, 13 SEG14/GRID5, 14 GRID4, 15 GRID3, 16 GND, 17 GRID2, 18 GRID1

## TM1638
designator U?
天微LED面板驱动芯片  8位X10位
pins: 1 K1, 2 K2, 3 K3, 4 VCC, 5 SEG1/KS1, 6 SEG2/KS2, 7 SEG3/KS3, 8 SEG4/KS4, 9 SEG5/KS5, 10 SEG6/KS6, 11 SEG7/KS7, 12 SEG8/KS8, 13 SEG9, 14 SEG10, 15 VDD, 16 GRID8, 17 GRID7, 18 GND, 19 GRID6, 20 GRID5, 21 GRID4, 22 GRID3, 23 GRID2, 24 GRID1, 25 GND, 26 DIO, 27 CLK, 28 STB

## VIBRATE
designator VT?  (value not drawn)
pins: 1, 2

## XL7005
designator U?, comment XL7005A
pins: 1 VIN, 2 SW, 3 FB, 4 EN, 5 GND, 6 GND, 7 GND, 8 GND

## XL8005
designator U?
pins: 1 NC, 2 VDD, 3 CSP, 4 SW, 5 VIN, 6 VIN, 7 CSN, 8 CSN

## XL8005-1
designator U?
pins: 1 NC, 2 VDD, 3 CSP, 4 SW, 5 VIN, 6 VIN, 7 CSN, 8 CSN